# EAGLE library part PCA21125 (library library)
SPI-bus Real-Time Clock and calendar
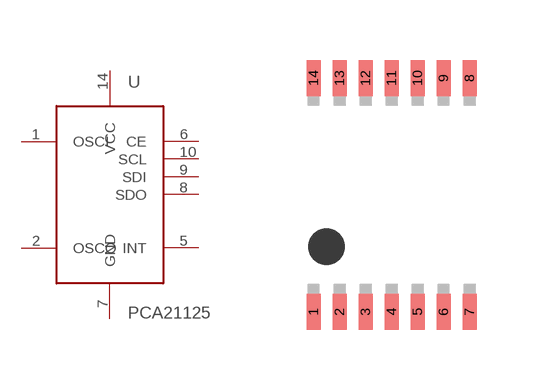
[diagram p0: symbol with the pads of TSSOP14; footprint TSSOP14]

Designator prefix U

## PCA21125  [TSSOP14]
1  OSCI
2  OSCO
5  INT
6  CE
7  GND
8  SDO
9  SDI
10  SCL
14  VCC

## Footprint TSSOP14 (pad centres in mm)
plastic thin shrink small outline package; 14 leads; body width 4.4 mm SOT402-1 Source: http://www.nxp.com/documents/data_sheet/74ABT125.pdf
smd 0.35 x 0.9: 1 -1.95,-2.925; 2 -1.3,-2.925; 3 -0.65,-2.925; 4 0,-2.925; 5 0.65,-2.925; 6 1.3,-2.925; 7 1.95,-2.925; 8 1.95,2.925; 9 1.3,2.925; 10 0.65,2.925; 11 0,2.925; 12 -0.65,2.925; 13 -1.3,2.925; 14 -1.95,2.925